# Altium footprint library WePcbLib.PcbLib: 177 footprints (part 6 of 12)
Each footprint in its own frame and in the unit in brackets; x right, y up, seen from the top. Pads: shape width x height; smd on the part's side, far side on the other; paste and mask are expansions set on the pad; w line width, h text height; cw(c..) or ccw(c..) is an arc to the next point about the centre after c.
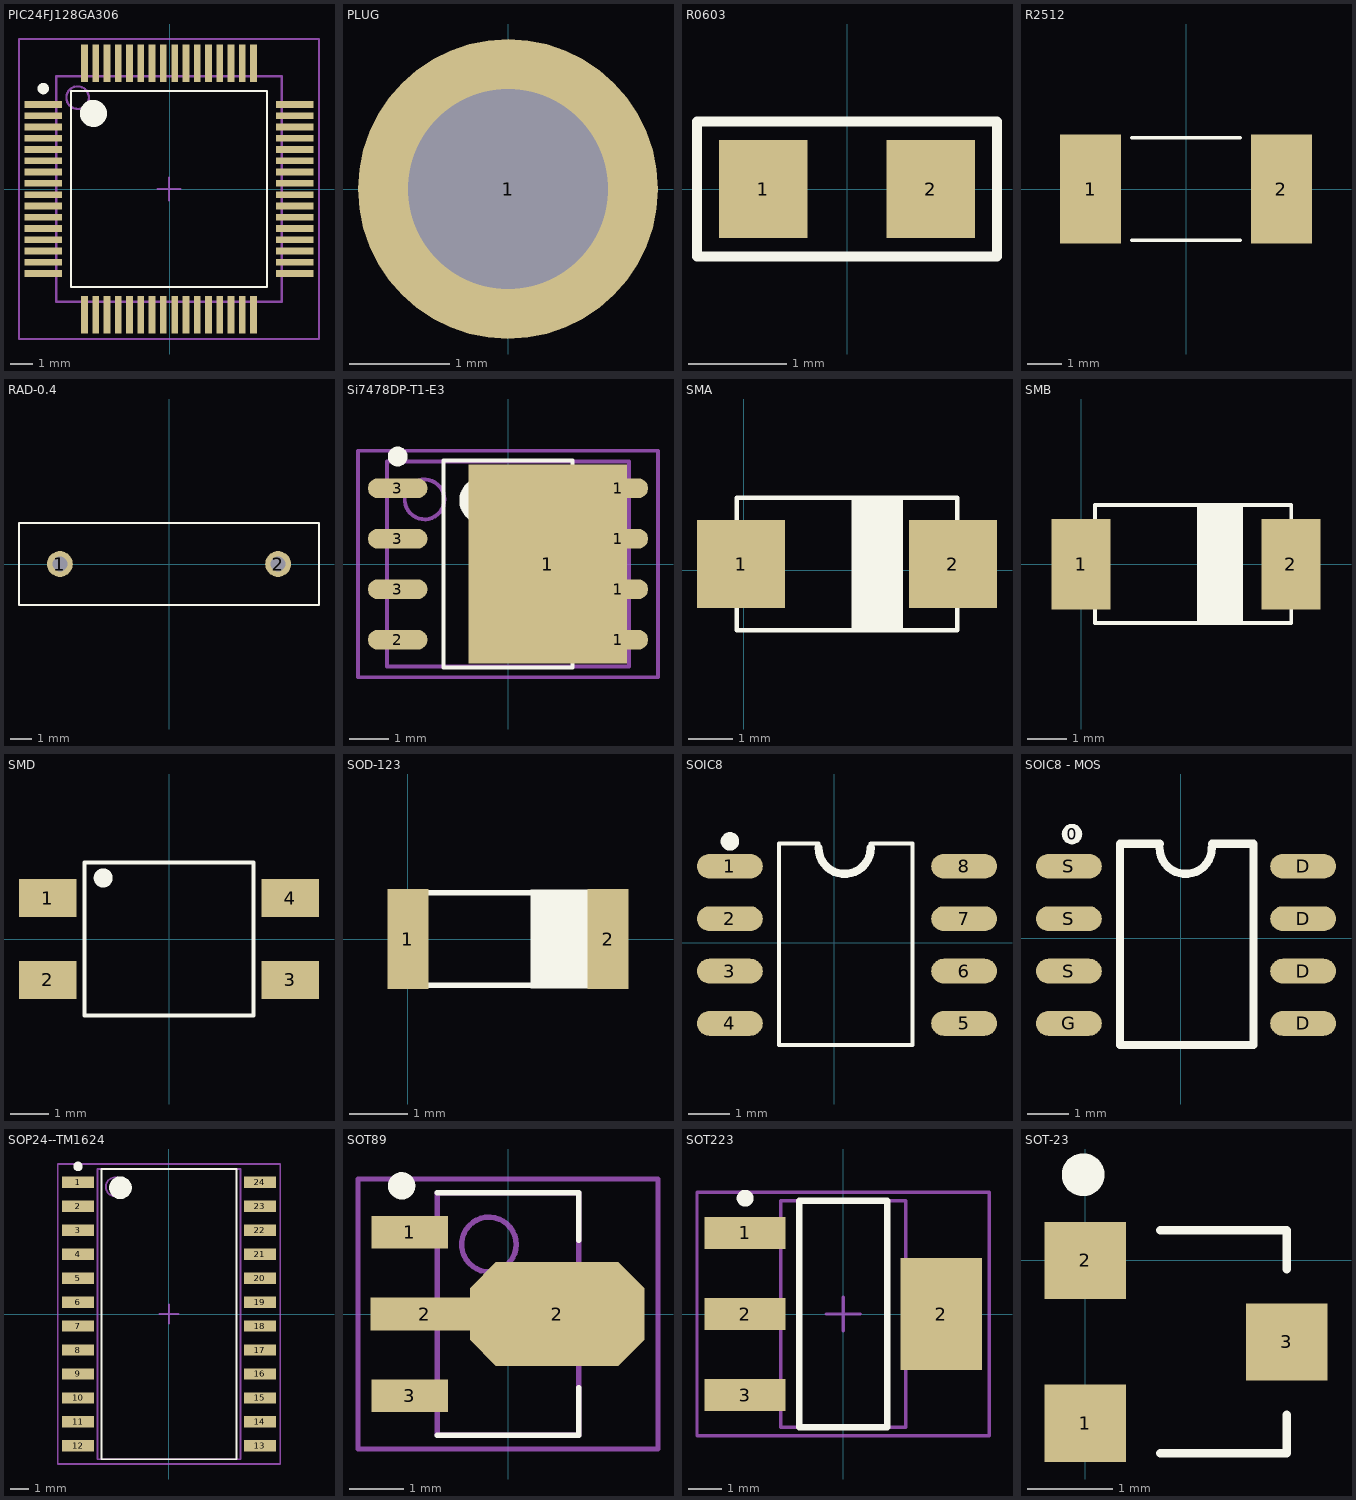
[diagram p5: the footprints below, top view; thin cyan lines are the x and y axes]

## PIC24FJ128GA306 [mm] "TSQFP, 64-Leads, Body 12.0x12.0mm (max), Pitch 0.50mm, IPC Medium Density"
height 1.2
pads (64):
  rect 1.65x0.3 smd: 1(-5.6,3.75) 2(-5.6,3.25) 3(-5.6,2.75) 4(-5.6,2.25) 5(-5.6,1.75) 6(-5.6,1.25) 7(-5.6,0.75) 8(-5.6,0.25) 9(-5.6,-0.25) 10(-5.6,-0.75) 11(-5.6,-1.25) 12(-5.6,-1.75) 13(-5.6,-2.25) 14(-5.6,-2.75) 15(-5.6,-3.25) 16(-5.6,-3.75) 33(5.55,-3.75) 34(5.55,-3.25) 35(5.55,-2.75) 36(5.55,-2.25) 37(5.55,-1.75) 38(5.55,-1.25) 39(5.55,-0.75) 40(5.55,-0.25) 41(5.55,0.25) 42(5.55,0.75) 43(5.55,1.25) 44(5.55,1.75) 45(5.55,2.25) 46(5.55,2.75) 47(5.55,3.25) 48(5.55,3.75)
  rect 0.3x1.65 smd: 17(-3.775,-5.575) 18(-3.275,-5.575) 19(-2.775,-5.575) 20(-2.275,-5.575) 21(-1.775,-5.575) 22(-1.275,-5.575) 23(-0.775,-5.575) 24(-0.275,-5.575) 25(0.225,-5.575) 26(0.725,-5.575) 27(1.225,-5.575) 28(1.725,-5.575) 29(2.225,-5.575) 30(2.725,-5.575) 31(3.225,-5.575) 32(3.725,-5.575) 49(3.725,5.575) 50(3.225,5.575) 51(2.725,5.575) 52(2.225,5.575) 53(1.725,5.575) 54(1.225,5.575) 55(0.725,5.575) 56(0.225,5.575) 57(-0.275,5.575) 58(-0.775,5.575) 59(-1.275,5.575) 60(-1.775,5.575) 61(-2.275,5.575) 62(-2.775,5.575) 63(-3.275,5.575) 64(-3.775,5.575)
Top Overlay:
  circle w0.25: c-5.6,4.45 r0.125
  circle w0.6: c-3.375,3.35 r0.3
  lines w0.1: -4.375,-4.35 -4.375,4.35 4.325,4.35 4.325,-4.35 -4.375,-4.35
Mechanical 13:
  circle w0.1: c-4.075,4.05 r0.5
  lines w0.1: -5.025,-5 -5.025,5 4.975,5 4.975,-5 -5.025,-5
Mechanical 15:
  lines w0.1: -0.525,0 0.475,0 ; -0.025,-0.5 -0.025,0.5 ; -6.675,-6.65 -6.675,6.65 6.625,6.65 6.625,-6.65 -6.675,-6.65
3D body: height 1.2, standoff 0.15, extent -5.025,-5 4.975,5

## PLUG [mm]
pads (1):
  round 3 hole 2: 1(0,0)

## R0603 [mm]
pads (2):
  rect 0.9x1 smd: 1(-0.85,0) 2(0.85,0)
Top Overlay:
  lines w0.1: -1.525,-0.686 -1.525,0.686 1.525,0.686 1.525,-0.686 -1.525,-0.686

## R2512 [mm]
pads (2):
  rect 1.8x3.2 smd: 1(-2.8,0) 2(2.8,0)
Top Overlay:
  lines w0.1: -1.6,-1.5 1.6,-1.5 ; -1.6,1.5 1.6,1.5

## RAD-0.4 [mm] "Servo Motor; 2 Leads"
pads (2):
  round 1.2 hole 0.7: 1(-5.08,0) 2(5.08,0)
Top Overlay:
  lines w0.1: -6.985,-1.905 6.985,-1.905 6.985,1.905 -6.985,1.905 -6.985,-1.905

## Si7478DP-T1-E3 [mm] "SOIC, 8-Leads, Body 5.2x6.1mm (max), Pitch 1.27mm, IPC Medium Density"
height 1
pads (9):
  rect 4x5 smd: 1(1,0)
  oval 1.5x0.5 smd: 1(2.775,-1.905) 1(2.775,-0.635) 1(2.775,0.635) 1(2.775,1.905) 2(-2.775,-1.905) 3(-2.775,-0.635) 3(-2.775,0.635) 3(-2.775,1.905)
Top Overlay:
  circle w0.6: c-0.625,1.6 r0.3
  circle w0.25: c-2.775,2.705 r0.125
  lines w0.1: -1.625,-2.6 1.625,-2.6 1.625,2.6 -1.625,2.6 -1.625,-2.6
Mechanical 13:
  circle w0.1: c-2.1,1.625 r0.5
  lines w0.1: -3.05,-2.575 3.05,-2.575 3.05,2.575 -3.05,2.575 -3.05,-2.575
Mechanical 15:
  lines w0.1: -0.5,0 0.5,0 ; 0,-0.5 0,0.5 ; -3.775,-2.85 3.775,-2.85 3.775,2.85 -3.775,2.85 -3.775,-2.85
3D body: height 1, standoff 0.28, extent -3.05,-2.575 3.05,2.575

## SMA [mm]
height 4.6
pads (2):
  rect 2x2 smd: 1(-0.062,0.138) 2(4.738,0.138)
Top Overlay:
  rectangle: 2.438,-1.362 3.613,1.638
  lines w0.1: -0.162,-0.862 -0.162,-1.362 4.838,-1.362 4.838,-0.862 ; -0.162,1.138 -0.162,1.638 4.838,1.638 4.838,1.138

## SMB [mm]
pads (2):
  rect 1.5x2.3 smd: 1(0,0) 2(5.334,0)
Top Overlay:
  rectangle: 2.946,-1.489 4.121,1.511
  lines w0.1: 0.346,-0.989 0.346,-1.489 5.346,-1.489 5.346,-0.989 ; 0.346,1.011 0.346,1.511 5.346,1.511 5.346,1.011

## SMD [mm] "SOIC, 4-Leads, Body 4.1x4.4mm (max), Pitch 1.27mm, IPC Medium Density"
height 2
pads (4):
  rect 1.5x1 smd: 1(-3.18,1.07) 2(-3.18,-1.07) 3(3.18,-1.07) 4(3.18,1.07)
Top Overlay:
  circle w0.25: c-1.725,1.6 r0.125
  lines w0.1: 2.184,-2.007 -2.21,-2.007 -2.21,2.007 2.184,2.007 ; 2.21,-2.007 2.21,2.007

## SOD-123 [mm]
pads (2):
  rect 0.7x1.7 smd: 1(0,0) 2(3.406,0)
Top Overlay:
  rectangle: 2.083,-0.838 3.124,0.838
  lines w0.1: 0.305,-0.787 3.048,-0.787 ; 0.305,0.787 3.048,0.787

## SOIC8 [mm]
height 4.6
pads (8):
  oval 1.6x0.6 smd: 1(-2.54,1.859) 2(-2.54,0.584) 3(-2.54,-0.691) 4(-2.54,-1.966) 5(3.16,-1.966) 6(3.16,-0.691) 7(3.16,0.584) 8(3.16,1.859)
Top Overlay:
  circle w0.25: c-2.538,2.464 r0.1
  lines w0.1: -0.381,2.409 -1.346,2.409 -1.346,-2.491 1.905,-2.491 1.905,2.409 0.889,2.409
  lines w0.2: -0.383,2.309 ccw(c0.252,2.309) 0.887,2.309

## SOIC8 - MOS [mm]
pads (9):
  round 0.5 on Top Overlay: 0(-2.642,2.54)
  oval 1.6x0.6 smd: D(2.982,-2.067) D(2.982,-0.792) D(2.982,0.483) D(2.982,1.758) G(-2.718,-2.067) S(-2.718,-0.792) S(-2.718,0.483) S(-2.718,1.758)
Top Overlay:
  lines w0.2: -0.51,2.208 ccw(c0.125,2.208) 0.76,2.208 ; -0.508,2.308 -1.473,2.308 -1.473,-2.592 1.778,-2.592 1.778,2.308 0.762,2.308

## SOP24--TM1624 [mm] "SOP, 24-Leads, Body 15.4x7.6mm (max), Pitch 1.27mm, IPC Medium Density"
height 2.2
pads (24):
  rect 1.7x0.6 smd: 1(-4.825,6.985) 2(-4.825,5.715) 3(-4.825,4.445) 4(-4.825,3.175) 5(-4.825,1.905) 6(-4.825,0.635) 7(-4.825,-0.635) 8(-4.825,-1.905) 9(-4.825,-3.175) 10(-4.825,-4.445) 11(-4.825,-5.715) 12(-4.825,-6.985) 13(4.825,-6.985) 14(4.825,-5.715) 15(4.825,-4.445) 16(4.825,-3.175) 17(4.825,-1.905) 18(4.825,-0.635) 19(4.825,0.635) 20(4.825,1.905) 21(4.825,3.175) 22(4.825,4.445) 23(4.825,5.715) 24(4.825,6.985)
Top Overlay:
  circle w0.25: c-4.825,7.835 r0.125
  circle w0.6: c-2.575,6.7 r0.3
  lines w0.1: -3.575,-7.7 -3.575,7.7 3.575,7.7 3.575,-7.7 -3.575,-7.7
Mechanical 13:
  circle w0.1: c-2.85,6.75 r0.5
  lines w0.1: -3.8,-7.7 -3.8,7.7 3.8,7.7 3.8,-7.7 -3.8,-7.7
Mechanical 15:
  lines w0.1: -0.5,0 0.5,0 ; 0,-0.5 0,0.5 ; -5.9,-7.95 -5.9,7.95 5.9,7.95 5.9,-7.95 -5.9,-7.95
3D body: height 2.2, standoff 0.15, extent -3.8,-7.7 3.8,7.7

## SOT89 [mm] "SOT89, 3-Leads, Body 4.4x2.4mm (max), Pitch 1.50mm, Lead Span 4.1mm, IPC Medium Density"
height 1.5
pads (4):
  rect 1.4x0.6 smd: 1(-1.8,1.5) 3(-1.8,-1.5)
  rect 2x0.6 smd: 2(-1.524,0)
  oct 3.2x1.9 smd: 2(0.9,0)
Top Overlay:
  circle w0.25: c-1.95,2.35 r0.125
  lines w0.1: -1.3,-2.225 1.3,-2.225 1.3,-1.35 ; -1.3,2.225 1.3,2.225 1.3,1.35
Mechanical 13:
  circle w0.1: c-0.35,1.275 r0.5
  lines w0.1: -1.3,-2.225 -1.3,2.225 1.3,2.225 1.3,-2.225 -1.3,-2.225
Mechanical 15:
  lines w0.1: -0.5,0 0.5,0 ; 0,-0.5 0,0.5 ; -2.75,-2.475 -2.75,2.475 2.75,2.475 2.75,-2.475 -2.75,-2.475
3D body: height 1.5, standoff 0, extent -1.3,-2.225 1.3,2.225

## SOT223 [mm] "SOT223, 4-Leads, Body 6.7x7.3mm (max), Pitch 2.40mm, IPC Medium Density"
height 1.8
pads (4):
  rect 2.4x0.95 smd: 1(-2.9,2.4) 2(-2.9,0) 3(-2.9,-2.4)
  rect 2.4x3.3 smd: 2(2.9,0)
Top Overlay:
  circle w0.25: c-2.9,3.425 r0.125
  lines w0.2: -1.3,-3.35 -1.3,3.35 1.3,3.35 1.3,-3.35 -1.3,-3.35
Mechanical 13:
  lines w0.1: -1.85,-3.35 -1.85,3.35 1.85,3.35 1.85,-3.35 -1.85,-3.35
Mechanical 15:
  lines w0.1: -0.5,0 0.5,0 ; 0,-0.5 0,0.5 ; -4.325,-3.6 -4.325,3.6 4.325,3.6 4.325,-3.6 -4.325,-3.6
3D body: height 1.8, standoff 0.02, extent -1.85,-3.35 1.85,3.35

## SOT-23 [mm]
height 1.1
pads (3):
  rect 0.95x0.9 smd: 1(0,-1.9) 2(0,0) 3(2.35,-0.95)
Top Overlay:
  circle w0.25: c-0.025,1 r0.125
  lines w0.1: 0.875,-2.25 2.35,-2.25 2.35,-1.8 ; 0.875,0.35 2.35,0.35 2.35,-0.1